# Altium schematic symbol library SDF DF84S.Schlib: 1 symbol
Pins are listed as number, name and electrical type; pins without a type are passive.

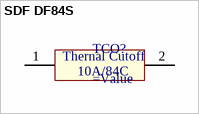
[diagram p0: symbol SDF DF84S]

## SDF DF84S
designator TCO?
=Description
pins: 1, 2
text: Thernal Cutoff; 10A/84C